# Altium integrated library VNH2SP30.IntLib: 1 symbol
Pins are listed as number, name and electrical type; pins without a type are passive.

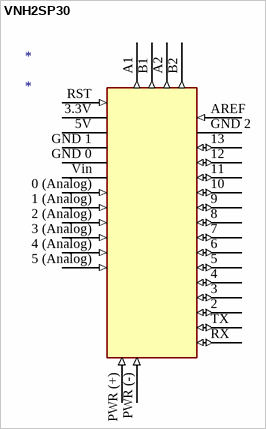
[diagram p0: symbol VNH2SP30]

## VNH2SP30
designator *
footprint Model Name (Footprint not found)
footprint VNH2SP30
pins: 0 (Analog) (in), 1 (Analog) (in), 2 (io), 2 (Analog) (in), 3 (io), 3 (Analog) (in), 3.3V (power), 4 (io), 4 (Analog) (in), 5 (io), 5 (Analog) (in), 5V (power), 6 (io), 7 (io), 8 (io), 9 (io), 10 (io), 11 (io), 12 (io), 13 (io), A1 (out), A2 (out), AREF (in), B1 (out), B2 (out), GND 0 (power), GND 1 (power), GND 2 (power), PWR (+) (in), PWR (-) (in), RST (in), RX (io), TX (io), Vin (power)